# Altium footprint library VCNL4035X01_Gesture_Board.PcbLib: 1 footprints
Each footprint in its own frame and in the unit in brackets; x right, y up, seen from the top. Pads: shape width x height; smd on the part's side, far side on the other; paste and mask are expansions set on the pad; w line width, h text height; cw(c..) or ccw(c..) is an arc to the next point about the centre after c.
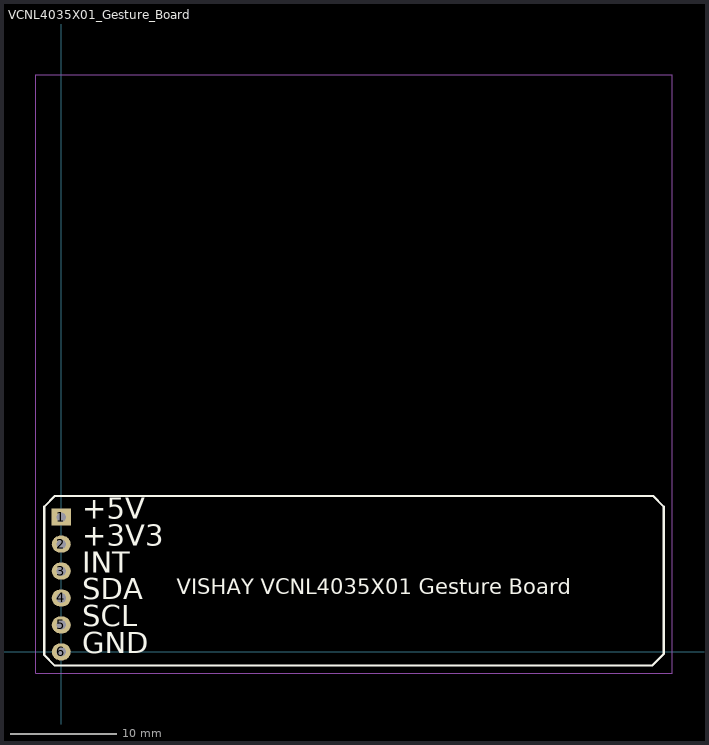
[diagram p0: the footprint, top view; thin cyan lines are the x and y axes]

## VCNL4035X01_Gesture_Board [mm] "VCNL4035X01_Gesture_Board"
height 5
pads (6):
  rect 1.8x1.6 hole 0.9: 1(0,12.7)
  oval 1.8x1.6 hole 0.9: 2(0,10.16) 3(0,7.62) 4(0,5.08) 5(0,2.54) 6(0,0)
Top Overlay:
  lines w0.2: -1.6,-0.3 -1.6,13.7 -0.6,14.7 55.8,14.7 56.8,13.7 56.8,-0.2 55.7,-1.3 -0.6,-1.3 -1.6,-0.3
  text "VISHAY VCNL4035X01 Gesture Board" at 10.9,4.9 h2.5
  text "+5V" at 2,11.9 h3.4
  text "+3V3" at 2,9.36 h3.4
  text "INT" at 2,6.82 h3.4
  text "SDA" at 2,4.28 h3.4
  text "SCL" at 2,1.74 h3.4
  text "GND" at 2,-0.8 h3.4
Mechanical 1:
  lines w0.1: -2.4,-2 -2.4,54.4 57.6,54.4 57.6,-2 -2.4,-2